# EAGLE library part JTAG (library Strutz Electronic Industries)
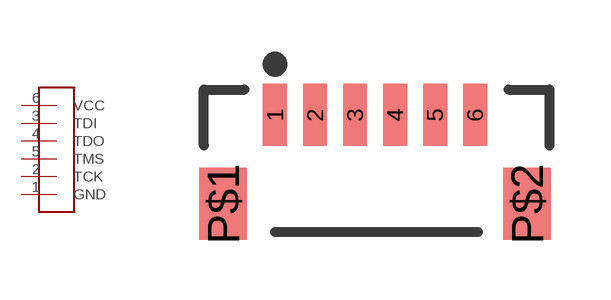
[diagram p16: symbol with the pads of JTAG-FPC; footprint JTAG-FPC]

Designator prefix -

## JTAG  [JTAG-FPC]
1  GND
2  TCK
3  TDI
4  TDO
5  TMS
6  VCC

## Footprint JTAG-FPC (pad centres in mm)
smd 0.6 x 1.55: 1 -2.54,1.27; 2 -1.54,1.27; 3 -0.54,1.27; 4 0.46,1.27; 5 1.46,1.27; 6 2.46,1.27
smd 1.2 x 1.8: P$1 -3.84,-0.955; P$2 3.76,-0.955